# EAGLE library part SCREW_CONNECTOR-6PIN (library BaseApp)
Digikey No :- 277-6608-ND
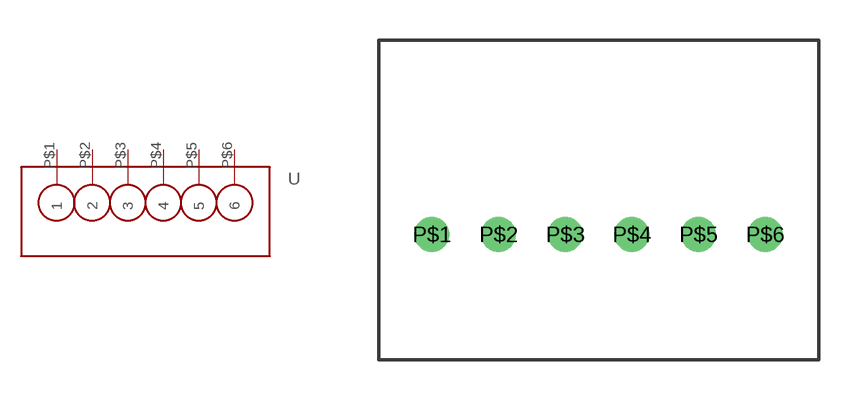
[diagram p61: symbol with the pads of SCREW_CONNECTOR-6PIN; footprint SCREW_CONNECTOR-6PIN]

Designator prefix -

## SCREW_CONNECTOR-6PIN  [SCREW_CONNECTOR-6PIN]
P$1  1
P$2  2
P$3  3
P$4  4
P$5  5
P$6  6

## Footprint SCREW_CONNECTOR-6PIN (pad centres in mm)
drill 0.8: P$1 -6.35,0; P$2 -3.85,0; P$3 -1.35,0; P$4 1.15,0; P$5 3.65,0; P$6 6.15,0